# EAGLE library part VI-422-DP-RC-S (library PP_Displays)
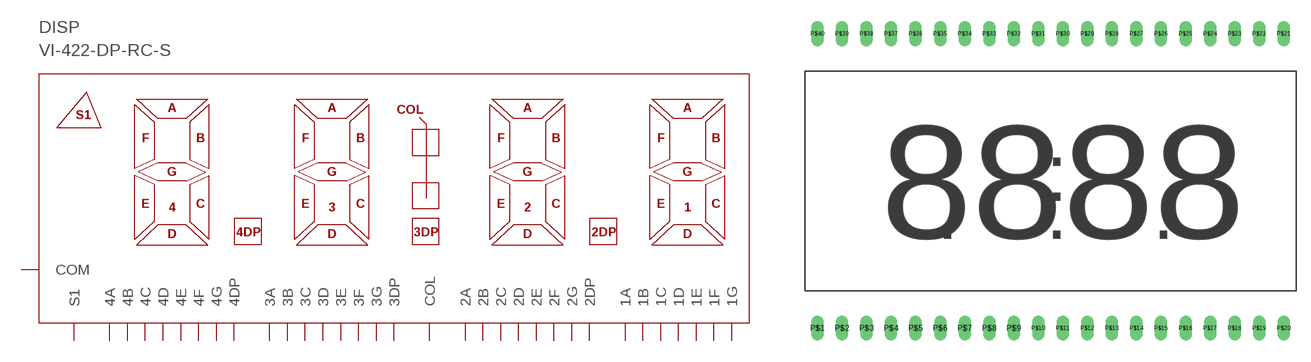
[diagram p6: symbol with the pads of VI-422-DP-RC-S; footprint VI-422-DP-RC-S]

Designator prefix DISP

## VI-422-DP-RC-S (MPN: VI-422-DP-RC-S)  [VI-422-DP-RC-S]
P$1  COM
P$5  4E
P$6  4D
P$7  4C
P$8  4DP
P$9  3E
P$10  3D
P$11  3C
P$12  3DP
P$13  2E
P$14  2D
P$15  2C
P$16  2DP
P$17  1E
P$18  1D
P$19  1C
P$20  1B
P$21  1A
P$22  1F
P$23  1G
P$24  2B
P$25  2A
P$26  2F
P$27  2G
P$28  COL
P$29  3B
P$30  3A
P$31  3F
P$32  3G
P$34  4B
P$35  4A
P$36  4F
P$37  4G
P$38  S1
P$40  COM

## Footprint VI-422-DP-RC-S (pad centres in mm)
drill 0.8 long: P$1 0,0; P$2 2.54,0; P$3 5.08,0; P$4 7.62,0; P$5 10.16,0; P$6 12.7,0; P$7 15.24,0; P$8 17.78,0; P$9 20.32,0; P$10 22.86,0; P$11 25.4,0; P$12 27.94,0; P$13 30.48,0; P$14 33.02,0; P$15 35.56,0; P$16 38.1,0; P$17 40.64,0; P$18 43.18,0; P$19 45.72,0; P$20 48.26,0; P$21 48.26,30.5; P$22 45.72,30.5; P$23 43.18,30.5; P$24 40.64,30.5; P$25 38.1,30.5; P$26 35.56,30.5; P$27 33.02,30.5; P$28 30.48,30.5; P$29 27.94,30.5; P$30 25.4,30.5; P$31 22.86,30.5; P$32 20.32,30.5; P$33 17.78,30.5; P$34 15.24,30.5; P$35 12.7,30.5; P$36 10.16,30.5; P$37 7.62,30.5; P$38 5.08,30.5; P$39 2.54,30.5; P$40 0,30.5